# EAGLE library part XCL101 (library DCDC)
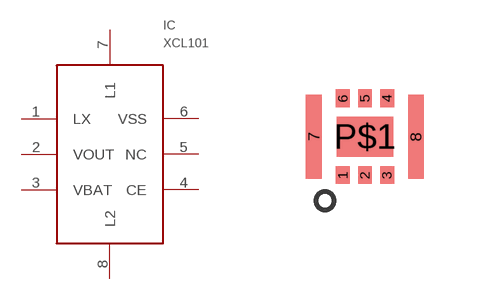
[diagram p0: symbol with the pads of CL-2025; footprint CL-2025]

Designator prefix IC

## XCL101  [CL-2025]
1  LX
2  VOUT
3  VBAT
4  CE
5  NC
6  VSS
7  L1
8  L2

## Footprint CL-2025 (pad centres in mm)
smd 0.35 x 0.44: 1 -0.55,-0.96; 2 0,-0.96; 3 0.55,-0.96; 4 0.55,0.96; 5 0,0.96; 6 -0.55,0.96
smd 0.4 x 2.1: 7 -1.275,0; 8 1.275,0
smd 1.4 x 1: P$1 0,0